# EAGLE library part _LED_MATRIX_4DIG_CC_RED_(LTC_4727JR) (library SamacSys_Parts)
Displays Panel 4DIGIT 35LED Sup. Red CC 14-Pin DIP Module Source: Datasheet <https://componentsearchengine.com/Datasheets/1/LTC-4727JR.pdf>
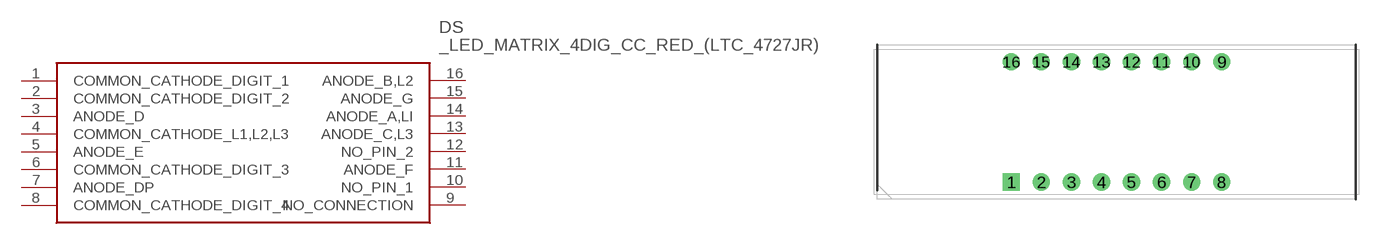
[diagram p19: symbol with the pads of DIP1016W75P254L4018H725Q16N; footprint DIP1016W75P254L4018H725Q16N]

Designator prefix DS

## _LED_MATRIX_4DIG_CC_RED_(LTC_4727JR) (DESCRIPTION: Displays Panel 4DIGIT 35LED Sup. Red CC 14-Pin DIP Module; HEIGHT: 7.25mm; MANUFACTURER_NAME: Lite-On; MANUFACTURER_PART_NUMBER: LTC-4727JR; MOUSER_PART_NUMBER: 859-LTC-4727JR; MOUSER_PRICE-STOCK: https://www.mouser.co.uk/ProductDetail/Lite-On/LTC-4727JR?qs=WxFF5lh7QM1aHvF1YvDORQ%3D%3D)  [DIP1016W75P254L4018H725Q16N]
1  COMMON_CATHODE_DIGIT_1
2  COMMON_CATHODE_DIGIT_2
3  ANODE_D
4  COMMON_CATHODE_L1,L2,L3
5  ANODE_E
6  COMMON_CATHODE_DIGIT_3
7  ANODE_DP
8  COMMON_CATHODE_DIGIT_4
9  NO_CONNECTION
10  NO_PIN_1
11  ANODE_F
12  NO_PIN_2
13  ANODE_C,L3
14  ANODE_A,LI
15  ANODE_G
16  ANODE_B,L2

## Footprint DIP1016W75P254L4018H725Q16N (pad centres in mm)
LTC - 4727JR
drill 0.95 pad 1.35 square: 1 -8.89,-5.08
drill 0.95 pad 1.35: 2 -6.35,-5.08; 3 -3.81,-5.08; 4 -1.27,-5.08; 5 1.27,-5.08; 6 3.81,-5.08; 7 6.35,-5.08; 8 8.89,-5.08; 9 8.89,5.08; 10 6.35,5.08; 11 3.81,5.08; 12 1.27,5.08; 13 -1.27,5.08; 14 -3.81,5.08; 15 -6.35,5.08; 16 -8.89,5.08